# EAGLE library part ALS321A1 (library ALS321A1)
LED DISPLAY 1-character 7 segment, decimal point right
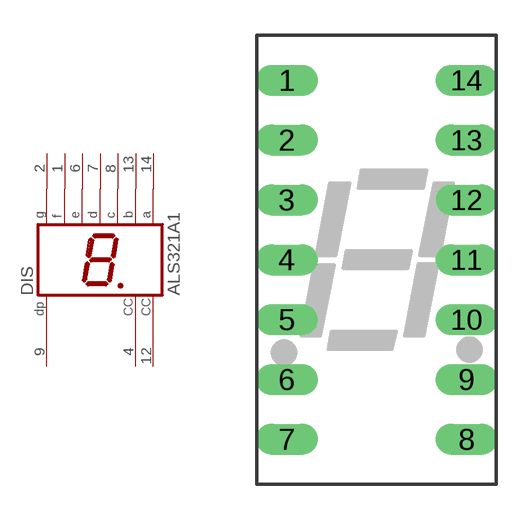
[diagram p0: symbol with the pads of ALS321A1; footprint ALS321A1]

Designator prefix DIS

## ALS321A1  [ALS321A1]
1  F  pas
2  G  pas
4  CC  pas
6  E  pas
7  D  pas
8  C  pas
9  DP  pas
12  CC  pas
13  B  pas
14  A  pas

## Footprint ALS321A1 (pad centres in mm)
LED DISPLAY 8-mm 1 character 7 segment, 1 decimal points
drill 0.813 long: 1 -3.81,7.62; 2 -3.81,5.08; 3 -3.81,2.54; 4 -3.81,0; 5 -3.81,-2.54; 6 -3.81,-5.08; 7 -3.81,-7.62; 8 3.81,-7.62; 9 3.81,-5.08; 10 3.81,-2.54; 11 3.81,0; 12 3.81,2.54; 13 3.81,5.08; 14 3.81,7.62